# Altium footprint library CAP_CER_0603.PcbLib: 1 footprints
Each footprint in its own frame and in the unit in brackets; x right, y up, seen from the top. Pads: shape width x height; smd on the part's side, far side on the other; paste and mask are expansions set on the pad; w line width, h text height; cw(c..) or ccw(c..) is an arc to the next point about the centre after c.
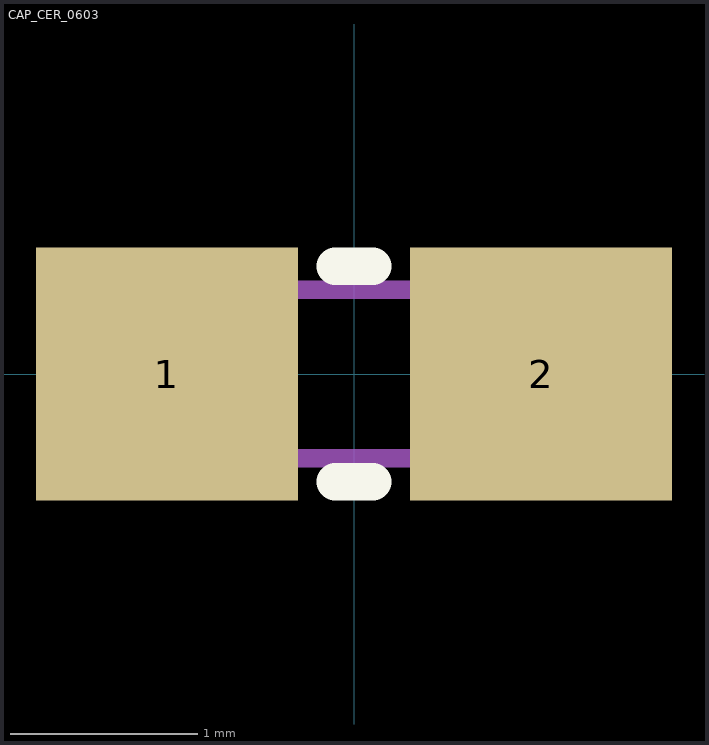
[diagram p0: the footprint, top view; thin cyan lines are the x and y axes]

## CAP_CER_0603 [mm] "Chip Capacitor, 2-Leads, Body 1.6x0.8mm, IPC Low Density"
height 0.7
pads (2):
  rect 1.4x1.35 smd: 1(-1,0) 2(1,0)
Top Overlay:
  lines w0.2: -0.1,-0.575 0.1,-0.575 ; -0.1,0.575 0.1,0.575
Mechanical 13:
  lines w0.1: -0.85,-0.45 0.85,-0.45 0.85,0.45 -0.85,0.45 -0.85,-0.45
3D body: height 0.7, standoff 0, extent -0.85,-0.45 0.85,0.45